# Altium schematic symbol library 中景园2寸TFT12PIN-st7789v.SCHLIB: 1 symbol
Pins are listed as number, name and electrical type; pins without a type are passive.

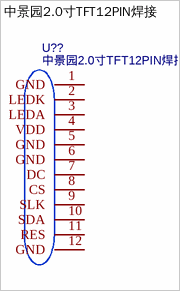
[diagram p0: symbol 中景园2.0寸TFT12PIN焊接]

## 中景园2.0寸TFT12PIN焊接
designator U??
Contributor: liam_sugar; spicePre: U; spiceSymbolName: 中景园2.0寸TFT12PIN焊接
footprint PCBComponent_1 - duplicate
pins: 1 GND, 2 LEDK, 3 LEDA, 4 VDD, 5 GND, 6 GND, 7 DC, 8 CS, 9 SLK, 10 SDA, 11 RES, 12 GND